# EAGLE library part 6EDL04N02PRXUMA1 (library 6EDL04N02)
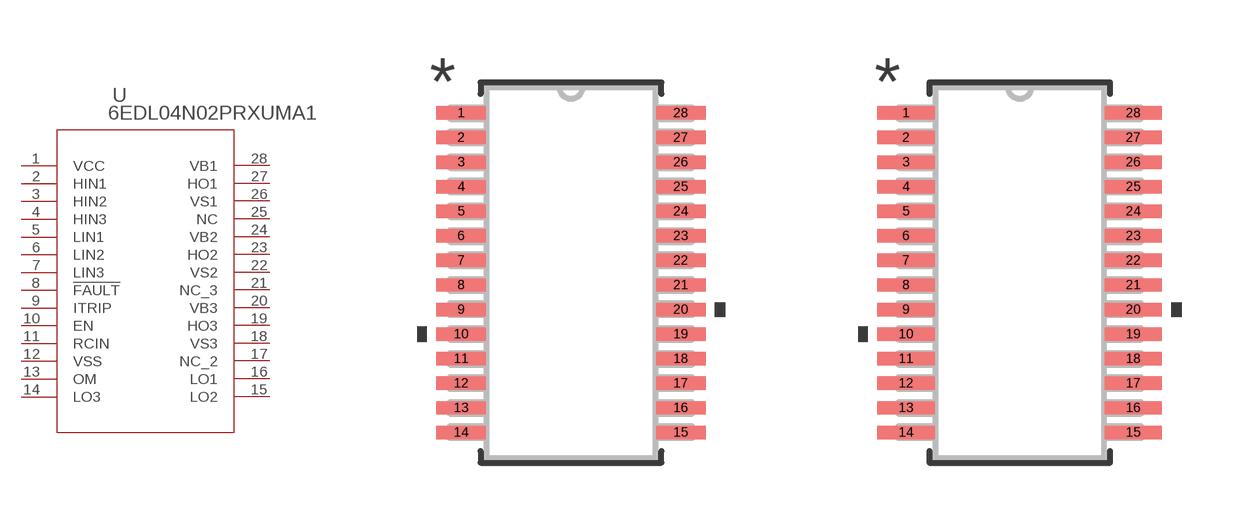
[diagram p0: symbol with the pads of PG-TSSOP-28_6EDL04N02PRXUMA1_I; footprints PG-TSSOP-28_6EDL04N02PRXUMA1_I, PG-TSSOP-28_6EDL04N02PRXUMA100]

Designator prefix U

## 6EDL04N02PRXUMA1 (COPYRIGHT: Copyright (C) 2023 Ultra Librarian. All rights reserved.; MANUFACTURER_PART_NUMBER: 6EDL04N02PRXUMA1; MFR_NAME: Infineon)  [PG-TSSOP-28_6EDL04N02PRXUMA1_I]
1  VCC  pwr
2  HIN1  in
3  HIN2  in
4  HIN3  in
5  LIN1  in
6  LIN2  in
7  LIN3  in
8  !FAULT  pas
9  ITRIP  pas
10  EN  pas
11  RCIN  pas
12  VSS  pas
13  OM  pas
14  LO3
15  LO2
16  LO1
17  NC_2  nc
18  VS3
19  HO3
20  VB3
21  NC_3  nc
22  VS2
23  HO2
24  VB2
25  NC  nc
26  VS1
27  HO1
28  VB1

## 6EDL04N02PRXUMA1PG-TSSOP-28_6EDL04N02PRXUMA100 (COPYRIGHT: Copyright (C) 2023 Ultra Librarian. All rights reserved.; MANUFACTURER_PART_NUMBER: 6EDL04N02PRXUMA1; MFR_NAME: Infineon)  [PG-TSSOP-28_6EDL04N02PRXUMA100]
Pads as for PG-TSSOP-28_6EDL04N02PRXUMA1_I

## 6EDL04N02PRXUMA1PG-TSSOP-28_6EDL04N02PRXUMA101 (COPYRIGHT: Copyright (C) 2023 Ultra Librarian. All rights reserved.; MANUFACTURER_PART_NUMBER: 6EDL04N02PRXUMA1; MFR_NAME: Infineon)  [PG-TSSOP-28_6EDL04N02PRXUMA101]
Pads as for PG-TSSOP-28_6EDL04N02PRXUMA1_I

## Footprint PG-TSSOP-28_6EDL04N02PRXUMA1_I (pad centres in mm)
smd 1.308 x 0.356: 1 -2.902,4.225; 2 -2.902,3.575; 3 -2.902,2.925; 4 -2.902,2.275; 5 -2.902,1.625; 6 -2.902,0.975; 7 -2.902,0.325; 8 -2.902,-0.325; 9 -2.902,-0.975; 10 -2.902,-1.625; 11 -2.902,-2.275; 12 -2.902,-2.925; 13 -2.902,-3.575; 14 -2.902,-4.225; 15 2.902,-4.225; 16 2.902,-3.575; 17 2.902,-2.925; 18 2.902,-2.275; 19 2.902,-1.625; 20 2.902,-0.975; 21 2.902,-0.325; 22 2.902,0.325; 23 2.902,0.975; 24 2.902,1.625; 25 2.902,2.275; 26 2.902,2.925; 27 2.902,3.575; 28 2.902,4.225

## Footprint PG-TSSOP-28_6EDL04N02PRXUMA100 (pad centres in mm)
smd 1.511 x 0.356: 1 -3.003,4.225; 2 -3.003,3.575; 3 -3.003,2.925; 4 -3.003,2.275; 5 -3.003,1.625; 6 -3.003,0.975; 7 -3.003,0.325; 8 -3.003,-0.325; 9 -3.003,-0.975; 10 -3.003,-1.625; 11 -3.003,-2.275; 12 -3.003,-2.925; 13 -3.003,-3.575; 14 -3.003,-4.225; 15 3.003,-4.225; 16 3.003,-3.575; 17 3.003,-2.925; 18 3.003,-2.275; 19 3.003,-1.625; 20 3.003,-0.975; 21 3.003,-0.325; 22 3.003,0.325; 23 3.003,0.975; 24 3.003,1.625; 25 3.003,2.275; 26 3.003,2.925; 27 3.003,3.575; 28 3.003,4.225

## Footprint PG-TSSOP-28_6EDL04N02PRXUMA101 (pad centres in mm)
smd 1.105 x 0.305: 1 -2.8,4.225; 2 -2.8,3.575; 3 -2.8,2.925; 4 -2.8,2.275; 5 -2.8,1.625; 6 -2.8,0.975; 7 -2.8,0.325; 8 -2.8,-0.325; 9 -2.8,-0.975; 10 -2.8,-1.625; 11 -2.8,-2.275; 12 -2.8,-2.925; 13 -2.8,-3.575; 14 -2.8,-4.225; 15 2.8,-4.225; 16 2.8,-3.575; 17 2.8,-2.925; 18 2.8,-2.275; 19 2.8,-1.625; 20 2.8,-0.975; 21 2.8,-0.325; 22 2.8,0.325; 23 2.8,0.975; 24 2.8,1.625; 25 2.8,2.275; 26 2.8,2.925; 27 2.8,3.575; 28 2.8,4.225